# EAGLE library part 92* (library NewSDR)
RELAY reed, 1 x norm. open with polarity, grid 5.08
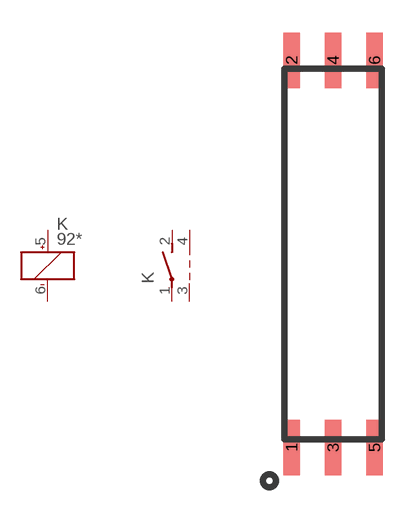
[diagram p194: symbol with the pads of REED_9200_GULL_WING; footprint REED_9200_GULL_WING]

Designator prefix K; gates 2=REED_92* 1=K+-

## 9202-05-00 (VOLTS: 5V), 9202-12-00 (VOLTS: 12V), 9290-05-00 (VOLTS: 5V), 9290-12-00 (VOLTS: 12V)  [REED_9200_GULL_WING]
1  2:SW1  pas
2  2:SW2  pas
3  2:SH3  pas
4  2:SH4  pas
5  1:+  pas
6  1:-  pas

## Footprint REED_9200_GULL_WING (pad centres in mm)
Coto SMD Reed Relay
smd 0.762 x 2.54: 1 -1.905,-8.89; 2 -1.905,8.89; 3 0,-8.89; 4 0,8.89; 5 1.905,-8.89; 6 1.905,8.89